# Altium integrated library DC-DC_Buck_Converter.IntLib: 16 symbols
Pins are listed as number, name and electrical type; pins without a type are passive.

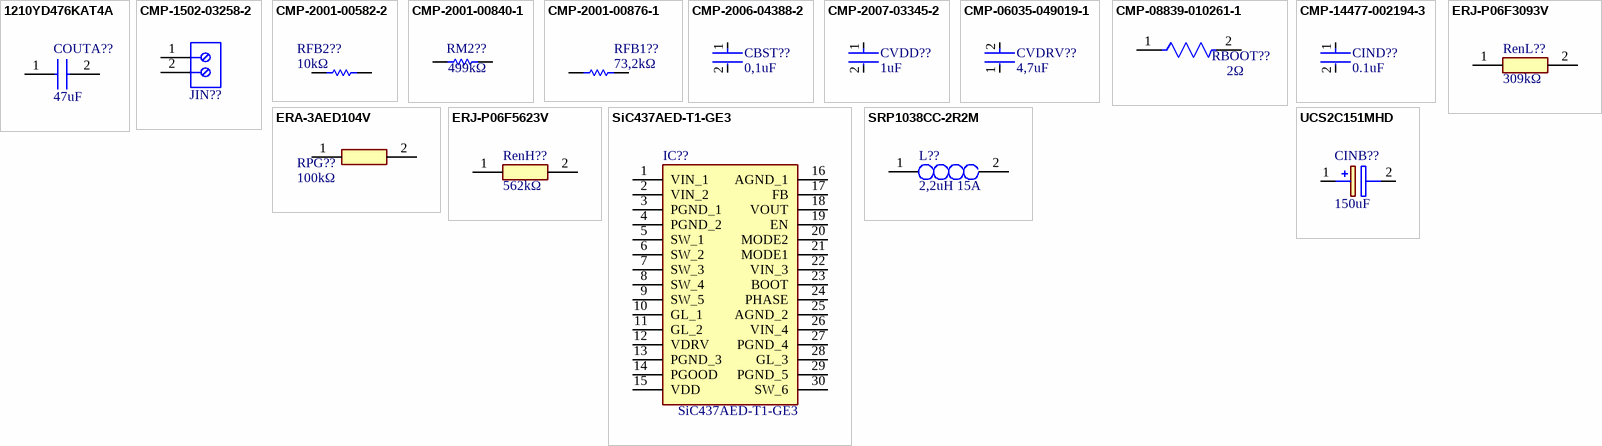
[diagram p0: symbols 1210YD476KAT4A to UCS2C151MHD]

## 1210YD476KAT4A
designator COUTA??, comment 47uF
1210YD476KAT4A, Capacitor, 16V, ripple 2A; Manufacturer_Name: Kyocera AVX; Datasheet Link: https://eu.mouser.com/datasheet/2/40/cx5r-776519.pdf; Height: 2.79mm; Manufacturer_Part_Number: 1210YD476KAT4A; Mouser Part Number: 581-1210YD476KAT4A; Mouser Price/Stock: https://www.mouser.com/Search/Refine.aspx?Keyword=581-1210YD476KAT4A
footprint CAPC3225X279N
pins: 1, 2

## CMP-1502-03258-2
designator JIN??, comment 691102710002  (value not drawn)
NexarPartId: 8917706; Number of Levels: 1; Number of Positions Per Level: 2; Current: 15A; Voltage: 300V; Pitch: 5.0038mm; Plating: Steel; Stripping Length: -6mm; Wire Gauge (Min): 14AWG; Wire Gauge (Max): 22AWG; Length: 7.5mm; Contact Material: Brass; Contact Plating: Tin; Packaging: Box; Number of Pins: 2; Voltage Rating: 300V; Termination: Screw; Number of Contacts: 2; Color: Blue; Current Rating: 15A; Mount: Through Hole; Max Operating Temperature: 105°C; Min Operating Temperature: -40°C; REACH SVHC: Unknown; Height: 13.4mm; Width: 11.2mm; Housing Material: Nylon; RoHS: Compliant; Wire/Cable Gauge: 22AWG; Lead Pitch: 5mm
footprint 691102710002 (Conn Terminal Block 2 POS 5mm Solder ST Thru-Hole 15A Box)
pins: 1, 2

## CMP-2001-00582-2
designator RFB2??, comment 10kΩ
ERA-6AEB103V, Metal Film Chip Resistor, High Reliability Type, 0.125 W, +/- 0.1%, -55 to 155 degC, 0805 (2012 Metric), RoHS, Tape and Reel; Voltage Rating: 100V; Power Rating: 125mW(1/8W); Brand: Panasonic; Temperature Coefficient: 25PPM/C; Resistance: 10kOhms; Product Category: ThinFilmResistors-SMD; Datasheet Version: 02/2016; Operating Temperature Range: -55Cto+155C; Length: 2mm; Mounting Technology: SurfaceMount; Manufacturer URL: http://www.panasonic.com/; Width: 1.25mm; Packaging: Reel; Product: ThinFilmResistorsSMD; Package / Case: 0805(2012metric); Termination Style: SMD/SMT; Tolerance: 0.1%; Datasheet URL: https://industrial.panasonic.com/cdbs/www-data/pdf/RDM0000/AOA0000C307.pdf; Package Description: 2-Pin Surface Mount Device, Body 2 x 1.25 mm; Factory Pack Quantity: 5000; Series: ERA-6A; Case Code - mm: 2012; RoHS: Details; Package Reference: 0805; Height: 0.5mm; Manufacturer: Panasonic; Case Code - in: 0805; Type: MetalFilmChipResistors
footprint RESC2013X60X40LL20T25_A (Chip Resistor, 2-Leads, Body 2.20x1.35mm, IPC High Density)
footprint RESC2013X60X40ML20T25_A (Chip Resistor, 2-Leads, Body 2.20x1.35mm, IPC Low Density)
footprint RESC2013X60X40NL20T25_A (Chip Resistor, 2-Leads, Body 2.20x1.35mm, IPC Medium Density)
pins: 1, 2

## CMP-2001-00840-1
designator RM2??, comment 499kΩ
ERA6AEB4993V, resistor, 499kΩ, 0.1% tolerance, 100V, 1/8W, 0805; Manufacturer: Panasonic; Part Number: ERA6AEB4993V
footprint RESC2013X60X40ML20T25 (Chip Resistor, 2-Leads, Body 2.00x1.25mm, IPC Low Density)
footprint RESC2013X60X40NL20T25 (Chip Resistor, 2-Leads, Body 2.00x1.25mm, IPC Medium Density)
footprint RESC2013X60X40LL20T25 (Chip Resistor, 2-Leads, Body 2.00x1.25mm, IPC High Density)
pins: 1, 2
1 alternate drawing of the same symbol

## CMP-2001-00876-1
designator RFB1??, comment 73,2kΩ
ERA6AEB7322V, resistor , 73,2kΩ , 0.1% tolerance, 1/8W; Manufacturer: Panasonic; Part Number: ERA6AEB7322V
footprint RESC2013X60X40ML20T25 (Chip Resistor, 2-Leads, Body 2.00x1.25mm, IPC Low Density)
footprint RESC2013X60X40LL20T25 (Chip Resistor, 2-Leads, Body 2.00x1.25mm, IPC High Density)
footprint RESC2013X60X40NL20T25 (Chip Resistor, 2-Leads, Body 2.00x1.25mm, IPC Medium Density)
pins: 1, 2
1 alternate drawing of the same symbol

## CMP-2006-04388-2
designator CBST??, comment 0,1uF
06035C104K4Z2A, Automotive Ceramic Capacitor, 0603, 100nF, 10%, X7R, 15%, 50V; Dissipation Factor: 2.5%; Radiation Hardening: No; Max Operating Temperature: 125°C; Features: Soft Termination; Thickness: 0.037inch; Tolerance: 10%; Case Code (Metric): 1608; Dielectric: X7R; Voltage Rating: 50V; Mount: Surface Mount; Width: 0.81mm; Package Quantity: 1; Contact Plating: Tin; Case/Package: 0603; Capacitance: 100nF; Length: 1.6mm; Series: FLEXITERM®; REACH SVHC: No SVHC; Ratings: AEC-Q200; Termination: SMD/SMT; Lead Free: Lead Free; Height: 0.035mm; Number of Pins: 2; RoHS Compliant: Yes; Case Code (Imperial): 0603; Voltage Rating (DC): 50V; Construction: Flat; Depth: 0.81mm; Min Operating Temperature: -55°C; Packaging: Tape and Reel
footprint FP-0603-L_1_6_0_15-W_0_81-IPC_A
footprint FP-0603-L_1_6_0_15-W_0_81-IPC_B
footprint FP-0603-L_1_6_0_15-W_0_81-MFG
footprint FP-0603-L_1_6_0_15-W_0_81-IPC_C
pins: 1, 2

## CMP-2007-03345-2
designator CVDD??, comment 1uF
GCM21BR71E105KA56K, Ceramic Capacitor for Automotive 1uF ±10% 25VDC X7R 0805 Embossed T/R; Voltage Rating (DC): 25V; Packaging: Tape and Reel; Dielectric: X7R; Termination: SMD/SMT; Mount: Surface Mount; Package Quantity: 10000; Tolerance: 10%; Thickness: 0.055inch; Width: 0.049inch; Case/Package: 0805; Construction: Flat; Height: 1.25mm; Case Code (Imperial): 0805; Radiation Hardening: No; Series: GCM; Max Operating Temperature: 125°C; Case Code (Metric): 2012; Voltage Rating: 25V; Length: 2mm; Depth: 1.25mm; Capacitance: 1uF; Ratings: AEC-Q200; Min Operating Temperature: -55°C
footprint FP-GCM21B-0_15-IPC_A
footprint FP-GCM21B-0_15-MFG
footprint FP-GCM21B-0_15-IPC_B
footprint FP-GCM21B-0_15-IPC_C
pins: 1, 2

## CMP-06035-049019-1
designator CVDRV??, comment 4,7uF
GRM219R6YA475KA73D, Chip Multilayer Ceramic Capacitors for General Purpose, 0805, 4.7uF, X5R, 15%, 10%, 35V; Voltage Rating: 35V; Mount: Surface Mount; Voltage: 35V; Width: 1.25mm; Tolerance: 10%; Height: 0.85mm; Termination: SMD/SMT; Max Operating Temperature: 85°C; Case/Package: 0805; Thickness: 0.037inch; Dielectric Material: Ceramic; Packaging: Tape and Reel; Lead Free: Lead Free; Package Quantity: 1; Depth: 1.25mm; Case Code (Metric): 2012; Weight: 0.000335oz; Voltage Rating (DC): 35V; Case Code (Imperial): 0805; Min Operating Temperature: -55°C; Capacitance: 4.7uF; Material: Ceramic; Dielectric: X5R; Length: 2mm
footprint FP-GRM219-0_15-0_1-IPC_B
footprint FP-GRM219-0_15-0_1-MFG
footprint FP-GRM219-0_15-0_1-IPC_A
footprint FP-GRM219-0_15-0_1-IPC_C
pins: 1, 2

## CMP-08839-010261-1
designator RBOOT??, comment 2Ω
ESR03EZPJ2R0, 2Ω ±5% 0.25W 0603 Anti-Surge Chip Resistor AEC-Q200; Max Power Dissipation: 250mW; Temperature Coefficient: 200ppm/°C; Resistance: 2R; Features: Automotive AEC-Q200; Resistor Type: Thick Film; Case Code (Imperial): 0603; Package Quantity: 5000; Series: ESR; Case/Package: 0603; Height: 0.022inch; Tolerance: 5%; Length: 0.063inch; RoHS Compliant: Yes; Number of Terminations: 2; Max Operating Temperature: 155°C; Case Code (Metric): 1608; Min Operating Temperature: -55°C; Packaging: Cut Tape; Width: 0.031inch
footprint FP-ESR03-MFG
footprint FP-ESR03-IPC_A
footprint FP-ESR03-IPC_C
footprint FP-ESR03-IPC_B
pins: 1, 2

## CMP-14477-002194-3
designator CIND??, comment 0.1uF
GMK107BJ104KAHT, Ceramic Capacitor Automotive 0.1uF ±10% 35V X5R 0603; NexarPartId: 29103042; Capacitance: 100nF; Width: 800µm; Voltage Rating (DC): 35V; Voltage Rating: 35V; Min Width: 700µm; Case Code (Imperial): 0603; Case Code (Metric): 1608; Length: 1.6002mm; Min Length: 1.5mm; Ratings: AEC-Q200; Max Length: 1.7mm; Height: 900µm; Mount: Surface Mount; Lead Free: Lead Free; Material: Ceramic; Packaging: Digi-Reel®; Max Operating Temperature: 85°C; Termination: SMD/SMT; Dielectric: X5R; Min Operating Temperature: -55°C; Halogen Free: Halogen Free; Tolerance: 10%; Min Thickness: 700µm; Max Thickness: 900µm; Thickness: 889µm; Case/Package: 0603; RoHS: Compliant; Max Width: 900µm
footprint FP-0603-L_1_6_0_1-W_0_8_0-MFG (Multilayer Ceramic Capacitors MLCC - SMD/SMT .1uF 35Volts X5R +/-10% 0603 STD)
footprint FP-0603-L_1_6_0_1-W_0_8_0-IPC_A (Multilayer Ceramic Capacitors MLCC - SMD/SMT .1uF 35Volts X5R +/-10% 0603 STD)
footprint FP-0603-L_1_6_0_1-W_0_8_0-IPC_B (Multilayer Ceramic Capacitors MLCC - SMD/SMT .1uF 35Volts X5R +/-10% 0603 STD)
footprint FP-0603-L_1_6_0_1-W_0_8_0-IPC_C (Multilayer Ceramic Capacitors MLCC - SMD/SMT .1uF 35Volts X5R +/-10% 0603 STD)
pins: 1, 2

## ERA-3AED104V
designator RPG??, comment 100kΩ
ERA-3AED104V, 100kΩ, 0,5% tolerance, 1/10W ,75V , Resistor; Manufacturer_Name: Panasonic; Datasheet Link: https://industrial.panasonic.com/cdbs/www-data/pdf/RDM0000/AOA0000C307.pdf; Height: 0.55mm; Manufacturer_Part_Number: ERA-3AED104V; Mouser Part Number: 667-ERA-3AED104V; Mouser Price/Stock: https://www.mouser.co.uk/ProductDetail/Panasonic/ERA-3AED104V?qs=MNPzkKEzRtQIWcmUWL4kjg%3D%3D
footprint ERA3AEB101V
pins: 1, 2

## ERJ-P06F3093V
designator RenL??, comment 309kΩ
ERJ-P06F3093V, Resistor, 309kΩ, 1% tolerance, 1/2W, 0805; Manufacturer_Name: Panasonic; Datasheet Link: http://industrial.panasonic.com/cdbs/www-data/pdf/RDA0000/AOA0000C102.pdf; Height: 0.7mm; Manufacturer_Part_Number: ERJ-P06F3093V; Mouser Part Number: 667-ERJ-P06F3093V; Mouser Price/Stock: https://www.mouser.co.uk/ProductDetail/Panasonic/ERJ-P06F3093V?qs=iIVTEDlrHA1HCCmB5VX2HQ%3D%3D
footprint ERJP06D1000V
pins: 1, 2

## ERJ-P06F5623V
designator RenH??, comment 562kΩ
ERJ-P06F5623V, Resistor, 080, 562kΩ , 1% tolerance, 1/2W; Manufacturer_Name: Panasonic; Datasheet Link: http://industrial.panasonic.com/cdbs/www-data/pdf/RDA0000/AOA0000C102.pdf; Height: 0.7mm; Manufacturer_Part_Number: ERJ-P06F5623V
footprint ERJP06D1000V
pins: 1, 2

## SiC437AED-T1-GE3
designator IC??
Integrated Circuit; Manufacturer_Name: Vishay; Datasheet Link: https://www.mouser.fr/datasheet/2/427/sic437-1670527.pdf; Height: 0.8mm; Manufacturer_Part_Number: SiC437AED-T1-GE3; Mouser Part Number: 78-SIC437AED-T1-GE3; Mouser Price/Stock: https://www.mouser.co.uk/ProductDetail/Vishay-Siliconix/SIC437AED-T1-GE3?qs=chTDxNqvsyloQdgCHbSYaQ%3D%3D; Arrow Part Number: SIC437AED-T1-GE3; Arrow Price/Stock: https://www.arrow.com/en/products/sic437aed-t1-ge3/vishay?utm_currency=USD&region=nac
footprint SIC437DEDT1GE3
pins: 1 VIN_1, 2 VIN_2, 3 PGND_1, 4 PGND_2, 5 SW_1, 6 SW_2, 7 SW_3, 8 SW_4, 9 SW_5, 10 GL_1, 11 GL_2, 12 VDRV, 13 PGND_3, 14 PGOOD, 15 VDD, 16 AGND_1, 17 FB, 18 VOUT, 19 EN, 20 MODE2, 21 MODE1, 22 VIN_3, 23 BOOT, 24 PHASE, 25 AGND_2, 26 VIN_4, 27 PGND_4, 28 GL_3, 29 PGND_5, 30 SW_6

## SRP1038CC-2R2M
designator L??, comment 2,2uH 15A
SRP1038CC-2R2M, Inductor, 15A; Manufacturer_Name: Bourns; Datasheet Link: https://www.bourns.com/docs/Product-Datasheets/SRP1038CC.pdf; Height: 4mm; Manufacturer_Part_Number: SRP1038CC-2R2M; Mouser Part Number: 652-SRP1038CC-2R2M; Mouser Price/Stock: https://www.mouser.co.uk/ProductDetail/Bourns/SRP1038CC-2R2M?qs=1Kr7Jg1SGW%252BcvKpILw06dA%3D%3D
footprint INDPM110100X400N
pins: 1, 2

## UCS2C151MHD
designator CINB??, comment 150uF
UCS2C151MHD, Aluminum Electrolytic Capacitors - Radial Leaded 160volts 150uF 16X20 20%, Capacitor Polarised; Manufacturer_Name: Nichicon; Datasheet Link: https://www.nichicon.co.jp/english/products/pdfs/e-ucs.pdf; Height: 21.5mm; Manufacturer_Part_Number: UCS2C151MHD; Mouser Part Number: 647-UCS2C151MHD; Mouser Price/Stock: https://www.mouser.com/Search/Refine.aspx?Keyword=647-UCS2C151MHD; Arrow Part Number: UCS2C151MHD; Arrow Price/Stock: https://www.arrow.com/en/products/ucs2c151mhd/nichicon
footprint CAPPRD750W80D1625H2150
pins: 1 +, 2 -